# Altium schematic symbol library SIA469DJ-T1-GE3.Schlib: 1 symbol
Pins are listed as number, name and electrical type; pins without a type are passive.

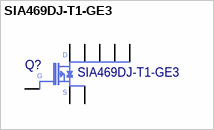
[diagram p0: symbol SIA469DJ-T1-GE3]

## SIA469DJ-T1-GE3
designator Q?
pins: 1 D, 2 D, 3 G, 4 S, 5 D, 6 D, 7 S, 8 D